# Altium footprint library VapeixS_LIB.PcbLib: 40 footprints (part 2 of 3)
Each footprint in its own frame and in the unit in brackets; x right, y up, seen from the top. Pads: shape width x height; smd on the part's side, far side on the other; paste and mask are expansions set on the pad; w line width, h text height; cw(c..) or ccw(c..) is an arc to the next point about the centre after c.
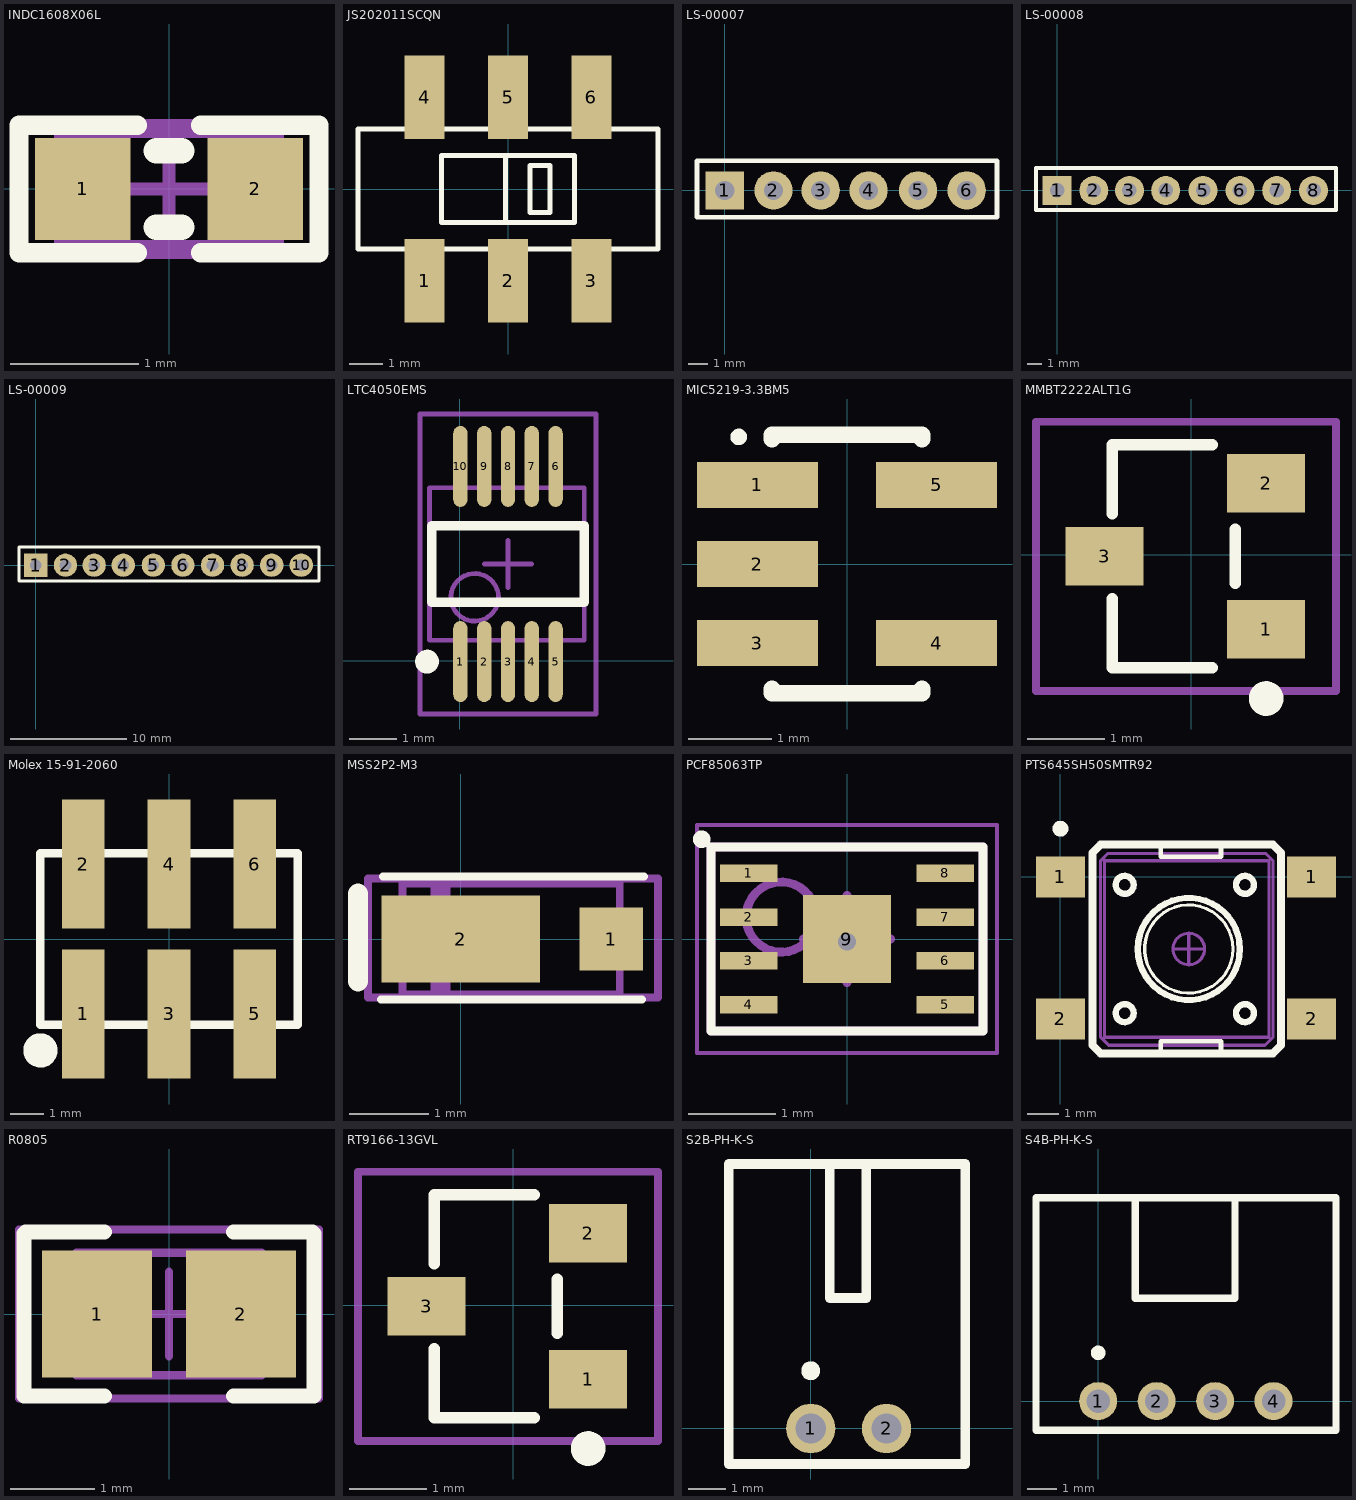
[diagram p1: the footprints below, top view; thin cyan lines are the x and y axes]

## INDC1608X06L [mm]
pads (2):
  rect 0.75x0.8 smd: 1(-0.675,0) 2(0.675,0)
Top Overlay:
  lines w0.152: -0.25,-0.5 -1.175,-0.5 -1.175,0.5 -0.25,0.5 ; 0.25,-0.5 1.175,-0.5 1.175,0.5 0.25,0.5
  lines w0.2: -0.1,-0.3 0.1,-0.3 ; -0.1,0.3 0.1,0.3
Mechanical 13:
  lines w0.1: -0.85,-0.45 -0.85,0.45 0.85,0.45 0.85,-0.45 -0.85,-0.45
Mechanical 15:
  lines w0.1: -0.45,0 0.45,0 ; 0,-0.45 0,0.45 ; -1.175,-0.5 1.175,-0.5 1.175,0.5 -1.175,0.5 -1.175,-0.5
3D body "User Library-Chip Inductor.step": height 0.8, standoff 0, extent -0.8,-0.475 0.8,0.475

## JS202011SCQN [mm] "SWITCH SLIDE DPDT 300MA 6V"
pads (6):
  rect 1.2x2.5 smd: 1(-2.5,-2.75) 2(0,-2.75) 3(2.5,-2.75) 4(-2.5,2.75) 5(0,2.75) 6(2.5,2.75)
Top Overlay:
  lines w0.152: -0.08,-1 -0.08,1 ; 1.24,0.7 0.66,0.7 0.66,-0.7 1.26,-0.7 1.26,0.7 ; -4.5,-1.8 -4.5,1.8 4.5,1.8 4.5,-1.8 -4.5,-1.8 ; -2,-1 -2,1 2,1 2,-1 -2,-1
3D body: height 0.9, standoff 0.15, extent -4.3,-1.6 4.3,1.675
3D body: height 0.9, standoff 0, extent -2.8,1.675 -2.2,1.825
3D body: height 0.15, standoff 0, extent -2.8,1.8 -2.2,3.75
3D body: height 3.5, standoff 3.48, extent -4.5,1 4.5,1.8
3D body: height 0.15, standoff 0, extent -0.3,1.8 0.3,3.75
3D body: height 0.9, standoff 0, extent -0.3,1.675 0.3,1.825
3D body: height 0.15, standoff 0, extent 2.2,1.8 2.8,3.75
3D body: height 0.9, standoff 0, extent 2.2,1.675 2.8,1.825
3D body: height 3.5, standoff 2.63, extent -4.52,-1.2 -4.5,1.2
3D body: height 2.63, standoff 1.75, extent -4.52,-1.7 -4.5,1.7
3D body: height 2.63, standoff 1.75, extent 4.5,-1.7 4.52,1.7
3D body: height 3.5, standoff 2.63, extent 4.5,-1.2 4.52,1.2
3D body: height 3.48, standoff 3, extent -4.5,-1.8 -2,1.8
3D body: height 5.5, standoff 1.75, extent -0.08,-1 2,1
3D body: height 3.05, standoff 3, extent -2,-1 2,1
3D body: height 3, standoff 0.9, extent -4.5,-1.8 4.5,1.8
3D body: height 0.15, standoff 0, extent -4.2,-1.5 -3.9,-1.2
3D body: height 0.15, standoff 0, extent 3.9,-1.5 4.2,-1.2
3D body: height 0.15, standoff 0, extent 3.9,1.2 4.2,1.5
3D body: height 0.15, standoff 0, extent -4.2,1.2 -3.9,1.5
3D body: height 0.9, standoff 0, extent -2.8,-1.825 -2.2,-1.675
3D body: height 0.15, standoff 0, extent -2.8,-3.75 -2.2,-1.8
3D body: height 0.9, standoff 0, extent -0.3,-1.825 0.3,-1.675
3D body: height 0.15, standoff 0, extent -0.3,-3.75 0.3,-1.8
3D body: height 0.15, standoff 0, extent 2.2,-3.75 2.8,-1.8
3D body: height 0.9, standoff 0, extent 2.2,-1.825 2.8,-1.675
3D body: height 3.5, standoff 3.48, extent -4.5,-1 -2,1
3D body: height 3.5, standoff 3.48, extent -4.5,-1.8 4.5,-1
3D body: height 3.5, standoff 3.48, extent 2,-1 4.5,1
3D body: height 3.48, standoff 3, extent 2,-1.8 4.5,1.8
3D body: height 3.48, standoff 3, extent -2,-1.8 2,-1
3D body: height 3.48, standoff 3, extent -2,1 2,1.8

## LS-00007 [mm] "Arduino Female Stackable Header - 6 pin(4 pack)"
pads (6):
  rect 2x2 hole 1: 1(0,0)
  round 2 hole 1: 2(2.54,0) 3(5,0) 4(7.5,0) 5(10.08,0) 6(12.62,0)
Top Overlay:
  lines w0.254: -1.45,-1.4 -1.45,1.55 14.2,1.55 14.2,-1.4 -1.45,-1.4
3D body "User Library-SIL_Socket06_.STEP": height 8.5, standoff -10.46, extent -1.27,-1.19 13.97,1.35

## LS-00008 [mm] "Arduino Femal e Stackable Headers - 8 pin (4 pack)"
pads (8):
  rect 2x2 hole 1: 1(0,0)
  round 2 hole 1: 2(2.54,0) 3(5,0) 4(7.5,0) 5(10.08,0) 6(12.62,0) 7(15.16,0) 8(17.7,0)
Top Overlay:
  lines w0.254: -1.45,-1.35 -1.45,1.55 19.25,1.55 19.25,-1.35 -1.45,-1.35
3D body "User Library-SIL_Socket08_.STEP": height 8.5, standoff -10.46, extent -1.27,-1.19 19.05,1.35

## LS-00009 [mm] "Arduino Female Stackable Header - 10 pin (4 pack)"
pads (10):
  rect 2x2 hole 1: 1(0,0)
  round 2 hole 1: 2(2.54,0) 3(5,0) 4(7.5,0) 5(10.08,0) 6(12.62,0) 7(15.16,0) 8(17.7,0) 9(20.24,0) 10(22.78,0)
Top Overlay:
  lines w0.254: -1.45,-1.35 24.3,-1.35 24.3,1.55 -1.45,1.55 -1.45,-1.35
3D body "User Library-SIL_Socket10_.STEP": height 8.5, standoff -10.46, extent -1.27,-1.19 24.13,1.35

## LTC4050EMS [mm] "IC BATT CHRG CNTRL LI-ION 10MSOP"
pads (10):
  oval 0.3x1.7 smd: 1(0.016,-0.018) 2(0.516,-0.018) 3(1.016,-0.018) 4(1.516,-0.018) 5(2.016,-0.018) 6(2.016,4.082) 7(1.516,4.082) 8(1.016,4.082) 9(0.516,4.082) 10(0.016,4.082)
Top Overlay:
  circle w0.25: c-0.684,-0.018 r0.125
  lines w0.2: -0.584,1.232 -0.584,2.832 2.616,2.832 2.616,1.232 -0.584,1.232
Mechanical 13:
  circle w0.1: c0.316,1.332 r0.5
  lines w0.1: -0.635,0.432 -0.635,3.632 2.616,3.632 2.616,0.432 -0.635,0.432
Mechanical 15:
  lines w0.1: 0.516,2.032 1.516,2.032 ; 1.016,1.532 1.016,2.532 ; -0.834,-1.118 -0.834,5.182 2.866,5.182 2.866,-1.118 -0.834,-1.118
3D body "User Library-MSOP-10-1.STEP": height 1.05, standoff 0, extent -0.484,-0.482 2.516,4.546

## MIC5219-3.3BM5 [mm] "IC REG LDO 3.3V 0.5A SOT23-5"
pads (5):
  rect 1.45x0.55 smd: 1(-1.075,0.95) 2(-1.075,0) 3(-1.075,-0.95) 4(1.075,-0.95) 5(1.075,0.95)
Top Overlay:
  circle w0.1: c-1.3,1.525 r0.05
  lines w0.2: -0.9,-1.5 -0.9,-1.55 0.9,-1.55 0.9,-1.5 ; -0.9,1.5 -0.9,1.55 0.9,1.55 0.9,1.5
3D body "SW3DPS-SOT-23-5-DEFAULT.STEP": height 1.05, standoff -0.05, extent -1.237,-1.525 1.263,1.475

## MMBT2222ALT1G [mil] "TRANS NPN 40V 0.6A SOT23"
pads (3):
  rect 40x30 smd: 1(38.4,-38.18) 2(38.4,36.63) 3(-44.27,-0.78)
Top Overlay:
  circle w9.84: c38.4,-73.61 r3.94
  lines w5.91: -40.34,-22.43 -40.34,-57.86 10.84,-57.86 ; -40.34,20.88 -40.34,56.31 10.84,56.31 ; 22.66,-14.55 22.66,13
Mechanical 15:
  lines w3.94: -79.39,-69.76 74.15,-69.76 74.15,68.04 -79.39,68.04 -79.39,-69.76
3D body "User Library-sot23-1.step": height 39.37, standoff 0, extent -49.01,-58.25 43.12,56.71

## Molex 15-91-2060 [mil] "CONN HEADER 6POS .100\" VERT TIN"
pads (6):
  rect 50x150 smd: 1(-100,-87.5) 2(-100,87.5) 3(0,-87.5) 4(0,87.5) 5(100,-87.5) 6(100,87.5)
Top Overlay:
  circle w20: c-150,-130 r10
  lines w10: -150,-100 -150,100 150,100 150,-100 -150,-100
3D body "pin_header_a-sl254-dg-g06mp1.stp": height 382.03, standoff -1.57, extent -149.99,-147.63 150.01,147.64

## MSS2P2-M3 [mm] "DIODE SCHOTTKY 20V 2A MICROSMP"
pads (2):
  rect 0.8x0.8 smd: 1(1.9,0)
  rect 2x1.1 smd: 2(0,0)
Top Overlay:
  lines w0.1: -1.003,-0.762 2.286,-0.762 ; -0.978,0.787 2.311,0.787
  lines w0.254: -1.295,-0.533 -1.295,0.572
Mechanical 13:
  lines w0.1: -0.737,-0.699 2.007,-0.699 2.007,0.699 -0.737,0.699 -0.737,-0.699
  lines w0.254: -0.254,-0.622 -0.254,0.622
Mechanical 15:
  lines w0.1: -1.168,-0.737 2.489,-0.737 2.489,0.762 -1.168,0.762 -1.168,-0.737
3D body "User Library-MicroSMP-1.STEP": height 0.66, standoff -0.02, extent -0.59,-0.635 1.91,0.665

## PCF85063TP [mm] "IC RTC CLK/CALENDAR I2C 8-SON"
height 0.75
pads (9):
  rect 0.65x0.2 smd: 1(-1.12,0.75) 2(-1.12,0.25) 3(-1.12,-0.25) 4(-1.12,-0.75) 5(1.12,-0.75) 6(1.12,-0.25) 7(1.12,0.25) 8(1.12,0.75)
  rect 1x1 smd paste-1.5 mask+0.051: 9(0,0)
via 0,-0.03 diameter 0.5 hole 0.2
Top Overlay:
  circle w0.1: c-1.657,1.137 r0.05
  lines w0.1: -1.551,-1.05 -1.551,1.05 ; -1.55,-1.05 1.55,-1.05 1.55,1.05 ; -1.55,1.05 1.551,1.05
Top Paste:
  region: 0.36,0.35 -0.36,0.35 -0.36,-0.37 0.36,-0.37
  rectangle: -0.46,-0.5 -0.03,-0.01
Mechanical 13:
  circle w0.1: c-0.75,0.25 r0.4
  lines w0.1: -1.55,-1.05 -1.55,1.05 1.55,1.05 1.55,-1.05 -1.55,-1.05
Mechanical 15:
  lines w0.05: -1.71,-1.3 -1.71,1.3 1.71,1.3 1.71,-1.3 -1.71,-1.3
  lines w0.1: -0.5,0 0.5,0 ; 0,-0.5 0,0.5
3D body "PSON50P300X80-8N.step": height 0.8, standoff 0, extent -1.551,-1.05 1.551,1.05

## PTS645SH50SMTR92 [mm] "SWITCH TACTILE SPST-NO 0.05A 12V"
pads (4):
  rect 1.55x1.3 smd: 1(0,0) 1(7.95,0) 2(0,-4.5) 2(7.95,-4.5)
Top Overlay:
  circle w0.25: c0,1.524 r0.125
  circle w0.1: c4.064,-2.286 r1.397
  circle w0.2: c2.032,-4.318 r0.284
  circle w0.2: c2.032,-0.254 r0.284
  circle w0.2: c5.842,-4.318 r0.284
  circle w0.2: c5.842,-0.254 r0.284
  circle w0.2: c4.064,-2.286 r1.616
  lines w0.15: 3.175,-5.588 3.175,-5.207 5.08,-5.207 5.08,-5.461 ; 3.175,0.889 3.175,0.635 5.08,0.635 5.08,1.016
  lines w0.254: 1.016,-5.334 1.27,-5.588 6.731,-5.588 6.985,-5.334 6.985,0.762 6.731,1.016 1.27,1.016 1.016,0.762 1.016,-5.334
Mechanical 13:
  circle w0.1: c4.064,-2.286 r0.5
  lines w0.1: 1.397,-5.08 1.397,0.508 6.604,0.508 6.604,-5.08 1.397,-5.08
Mechanical 15:
  lines w0.1: 3.564,-2.286 4.564,-2.286 ; 4.064,-2.786 4.064,-1.786 ; 1.27,-5.08 1.27,0.508 1.499,0.737 6.502,0.737 6.731,0.508 6.731,-5.08 6.477,-5.334 1.524,-5.334 1.27,-5.08
3D body "User Library-PTS645SL43SMTR92-LFS.STEP": height 4.3, standoff 0, extent -0.563,-5.238 8.437,0.762

## R0805 [mm]
pads (2):
  rect 1.3x1.5 smd: 1(-0.85,0) 2(0.85,0)
Top Overlay:
  lines w0.178: -0.762,-0.968 -1.717,-0.968 -1.717,0.95 -1.699,0.968 -0.762,0.968 ; 0.762,-0.968 1.717,-0.968 1.717,0.95 1.699,0.968 0.762,0.968
Mechanical 5:
  lines w0.1: -1.775,-1 1.775,-1 1.775,1 -1.775,1 -1.775,-1
Mechanical 13:
  lines w0.1: -0.65,-0.725 -0.65,0.725 ; 0.65,-0.725 0.65,0.725 ; -1.1,-0.725 1.1,-0.725 1.1,0.725 -1.1,0.725 -1.1,-0.725
Mechanical 15:
  lines w0.1: -0.5,0 0.5,0 ; 0,-0.5 0,0.5 ; -1.775,-1 1.775,-1 1.775,1 -1.775,1 -1.775,-1
3D body "SW3dPS-0805 SMD Resistor.STEP": height 0.78, standoff 0, extent -1,-0.625 1,0.625

## RT9166-13GVL [mil] "IC REG LDO 1.3V 0.3A SOT23-3"
pads (3):
  rect 40x30 smd: 1(38.35,-37.92) 2(38.35,36.89) 3(-44.33,-0.51)
Top Overlay:
  circle w9.84: c38.35,-73.35 r3.94
  lines w5.91: -40.39,-22.17 -40.39,-57.6 10.79,-57.6 ; -40.39,21.14 -40.39,56.57 10.79,56.57 ; 22.6,-14.29 22.6,13.27
Mechanical 15:
  lines w3.94: -79.45,-69.5 74.1,-69.5 74.1,68.3 -79.45,68.3 -79.45,-69.5
3D body "User Library-sot23-1.step": height 39.37, standoff 0, extent -49.06,-57.99 43.07,56.98

## S2B-PH-K-S [mm] "CONN HEADER PH SIDE 2POS 2MM"
pads (2):
  round 1.3 hole 0.8: 1(0,0) 2(2,0)
Top Overlay:
  circle w0.25: c0,1.524 r0.125
  lines w0.254: 0.503,6.897 0.503,3.444 1.467,3.444 1.467,6.873 ; -2.161,-0.937 4.074,-0.937 4.074,6.982 -2.161,6.982 -2.161,-0.937
3D body "User Library-PCB HEADER (JST SxB-PH-K-S (RIGHT ANGLE))S2B-PH-K-S.STEP": height 4.8, standoff -2, extent -1.976,-0.778 3.924,6.822

## S4B-PH-K-S [mm] "CONN HEADER PH SIDE 4POS 2MM"
pads (4):
  round 1.3 hole 0.8: 1(0,0) 2(2,0) 3(4,0) 4(6,0)
Top Overlay:
  circle w0.25: c0,1.651 r0.125
  lines w0.254: 1.271,6.934 1.271,3.52 4.681,3.52 4.681,6.939 ; -2.128,-0.997 -2.128,6.957 8.136,6.957 8.136,-0.997 -2.128,-0.997
3D body "User Library-PCB HEADER (JST SxB-PH-K-S (RIGHT ANGLE))S4B-PH-K-S.STEP": height 4.8, standoff -2, extent -1.948,-0.827 7.952,6.773